# EAGLE library part 25AA02E* (library ARM926SBC)
SPI EEPROM with MAC, 256 Bytes
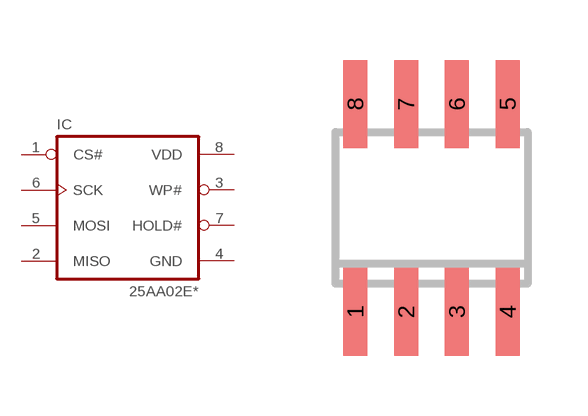
[diagram p3: symbol with the pads of SO-08; footprint SO-08]

Designator prefix IC

## 25AA02E48-SN, 25AA02E64-SN  [SO-08]
1  CS#  in
2  MISO  out
3  WP#  oc
4  GND  pwr
5  MOSI  in
6  SCK  in
7  HOLD#  oc
8  VDD  pwr

## Footprint SO-08 (pad centres in mm)
Small Outline Narrow Plastic Gull Wing 150-mil body, package type SN
smd 0.6 x 2.2: 1 -1.905,-2.6; 2 -0.635,-2.6; 3 0.635,-2.6; 4 1.905,-2.6; 5 1.905,2.6; 6 0.635,2.6; 7 -0.635,2.6; 8 -1.905,2.6